# Altium schematic symbol library DC to DC.SchLib: 1 symbol
Pins are listed as number, name and electrical type; pins without a type are passive.

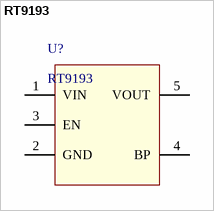
[diagram p0: symbol RT9193]

## RT9193
designator U?
3V3 Voltage Regulator
footprint SC70-5 (SC70, 5-Leads, Body 2.03x2.13mm, Pitch 0.65mm, IPC Medium Density)
pins: 1 VIN, 2 GND, 3 EN, 4 BP, 5 VOUT